# EAGLE library part TRULY-OV5640 (library Neel)
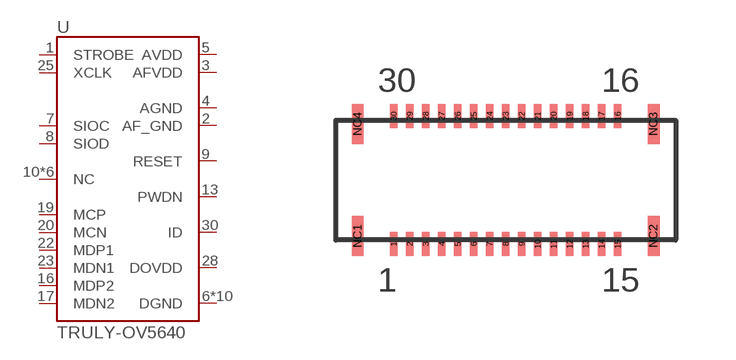
[diagram p77: symbol with the pads of AXT530124; footprint AXT530124]

Designator prefix -

## TRULY-OV5640  [AXT530124]
1  STROBE
2  AF_GND
3  AFVDD
4  AGND
5  AVDD
6  DGND
7  SIOC
8  SIOD
9  RESET
10  NC
11  DGND
12  DGND
13  PWDN
14  DGND
15  DGND
16  MDP2
17  MDN2
18  DGND
19  MCP
20  MCN
21  DGND
22  MDP1
23  MDN1
24  DGND
25  XCLK
26  DGND
27  NC
28  DOVDD
29  DGND
30  ID
NC1  NC
NC2  NC
NC3  NC
NC4  NC

## Footprint AXT530124 (pad centres in mm)
smd 0.19 x 0.6: 1 -2.8,-1.6; 2 -2.4,-1.6; 3 -2,-1.6; 4 -1.6,-1.6; 5 -1.2,-1.6; 6 -0.8,-1.6; 7 -0.4,-1.6; 8 0,-1.6; 9 0.4,-1.6; 10 0.8,-1.6; 11 1.2,-1.6; 12 1.6,-1.6; 13 2,-1.6; 14 2.4,-1.6; 15 2.8,-1.6; 16 2.8,1.6; 17 2.4,1.6; 18 2,1.6; 19 1.6,1.6; 20 1.2,1.6; 21 0.8,1.6; 22 0.4,1.6; 23 0,1.6; 24 -0.4,1.6; 25 -0.8,1.6; 26 -1.2,1.6; 27 -1.6,1.6; 28 -2,1.6; 29 -2.4,1.6; 30 -2.8,1.6
smd 0.3 x 1: NC1 -3.7,-1.4; NC2 3.7,-1.4; NC3 3.7,1.4; NC4 -3.7,1.4